# Altium integrated library 74HC14D_653.IntLib: 1 symbol
Pins are listed as number, name and electrical type; pins without a type are passive.

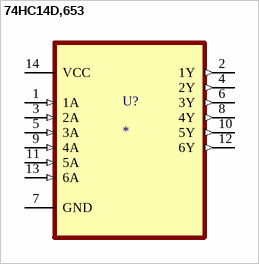
[diagram p0: symbol 74HC14D,653]

## 74HC14D,653
designator U?
Inverter IC 6 Channel Schmitt Trigger 14-SO; MF: Nexperia USA; MP: 74HC14D,653; SnapEDA_Link: https://www.snapeda.com/parts/74HC14D,653/Nexperia/view-part/?ref=snap; Package: SO14-14 Nexperia USA Inc.; Value: *; Check_prices: https://www.snapeda.com/parts/74HC14D,653/Nexperia/view-part/?ref=eda
footprint SOIC127P600X175-14N
pins: 1 1A (in), 2 1Y (out), 3 2A (in), 4 2Y (out), 5 3A (in), 6 3Y (out), 7 GND, 8 4Y (out), 9 4A (in), 10 5Y (out), 11 5A (in), 12 6Y (out), 13 6A (in), 14 VCC (power)